# EAGLE library part HTRC11001T (library RoboJackets-RF)
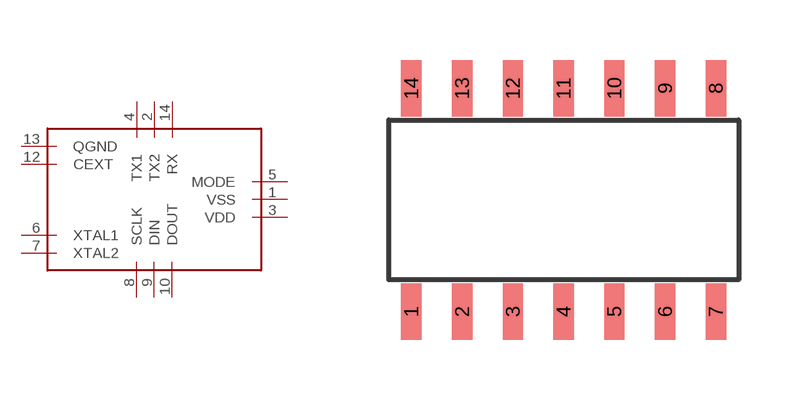
[diagram p0: symbol with the pads of HTRC11001T; footprint HTRC11001T]

Designator prefix IC

## HTRC11001T  [HTRC11001T]
1  VSS
2  TX2
3  VDD
4  TX1
5  MODE
6  XTAL1
7  XTAL2
8  SCLK
9  DIN
10  DOUT
12  CEXT
13  QGND
14  RX

## Footprint HTRC11001T (pad centres in mm)
smd 0.508 x 1.422: 1 -3.81,-2.794; 2 -2.54,-2.794; 3 -1.27,-2.794; 4 0,-2.794; 5 1.27,-2.794; 6 2.54,-2.794; 7 3.81,-2.794; 8 3.81,2.794; 9 2.54,2.794; 10 1.27,2.794; 11 0,2.794; 12 -1.27,2.794; 13 -2.54,2.794; 14 -3.81,2.794